# Altium schematic symbol library ConnectorsG.SchLib: 21 symbols
Pins are listed as number, name and electrical type; pins without a type are passive.

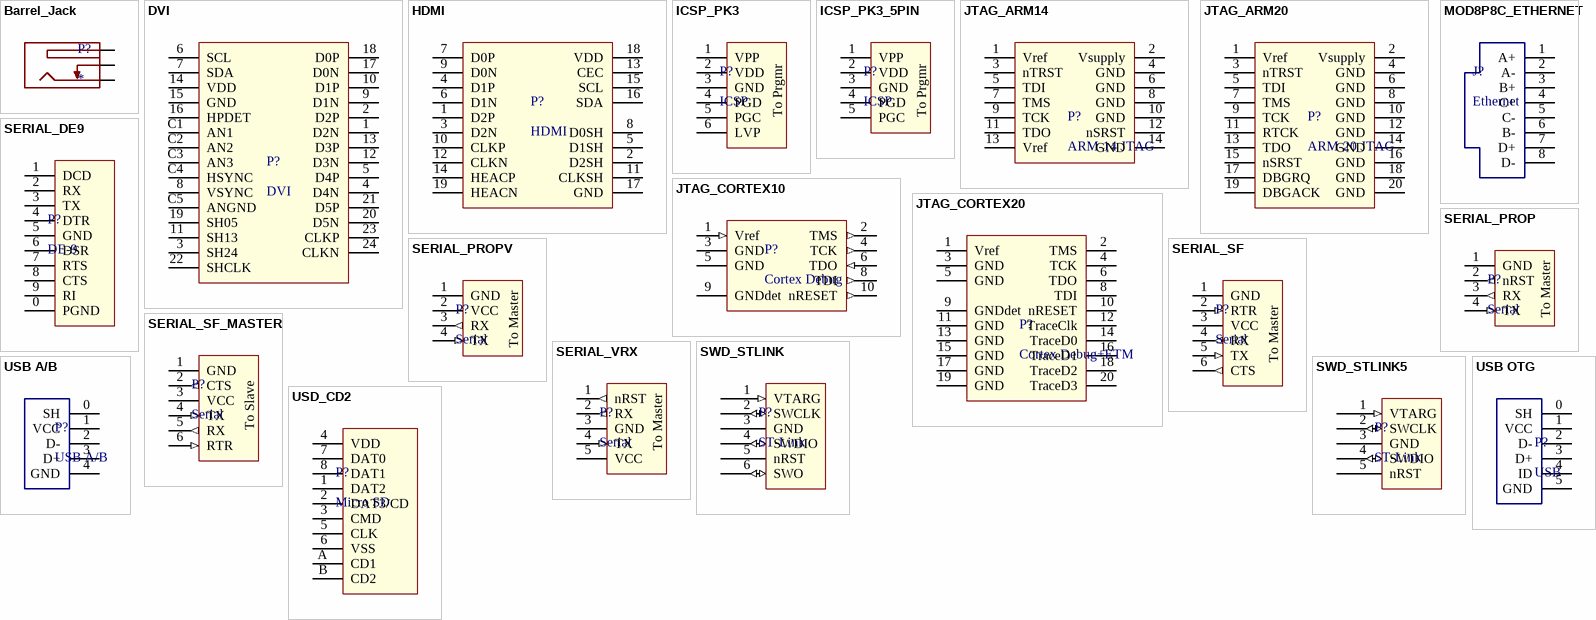
[diagram p0: symbols Barrel_Jack to USD_CD2]

## Barrel_Jack
designator P?
DC Power Jack - Barrel Type
footprint PJ-002A (DC Power Jack - Barrel Type)
footprint PJ-007 (Power Jack 1.3mm ID, 3.5mm OD)
pins: RING, SWITCH, TIP

## DVI
designator P?
pins: 1 D2N, 2 D2P, 3 SH24, 4 D4N, 5 D4P, 6 SCL, 7 SDA, 8 VSYNC, 9 D1N, 10 D1P, 11 SH13, 12 D3N, 13 D3P, 14 VDD, 15 GND, 16 HPDET, 17 D0N, 18 D0P, 19 SH05, 20 D5N, 21 D5P, 22 SHCLK, 23 CLKP, 24 CLKN, C1 AN1, C2 AN2, C3 AN3, C4 HSYNC, C5 ANGND

## HDMI
designator P?
pins: 1 D2P, 2 D2SH, 3 D2N, 4 D1P, 5 D1SH, 6 D1N, 7 D0P, 8 D0SH, 9 D0N, 10 CLKP, 11 CLKSH, 12 CLKN, 13 CEC, 14 HEACP, 15 SCL, 16 SDA, 17 GND, 18 VDD, 19 HEACN

## ICSP_PK3
designator P?, comment ICSP
PICKit3 compatible ICSP header
footprint HDR1X6 (Footprint not found)
pins: 1 VPP, 2 VDD, 3 GND, 4 PGD, 5 PGC, 6 LVP
text: To Prgmr

## ICSP_PK3_5PIN
designator P?, comment ICSP
PICKit3 compatible ICSP header
footprint HDR1X5 (Connector; Header; 5 Position)
pins: 1 VPP, 2 VDD, 3 GND, 4 PGD, 5 PGC
text: To Prgmr

## JTAG_ARM14
designator P?, comment ARM-14 JTAG
JTAG - ARM 14-pin style
footprint HDR2X7 (Connector; Header; 7x2 Position)
pins: 1 Vref, 2 Vsupply, 3 nTRST, 4 GND, 5 TDI, 6 GND, 7 TMS, 8 GND, 9 TCK, 10 GND, 11 TDO, 12 nSRST, 13 Vref, 14 GND

## JTAG_ARM20
designator P?, comment ARM-20 JTAG
JTAG - ARM 20-pin style
footprint HDR2X10 (Connector; Header; 10x2 Position)
pins: 1 Vref, 2 Vsupply, 3 nTRST, 4 GND, 5 TDI, 6 GND, 7 TMS, 8 GND, 9 TCK, 10 GND, 11 RTCK, 12 GND, 13 TDO, 14 GND, 15 nSRST, 16 GND, 17 DBGRQ, 18 GND, 19 DBGACK, 20 GND

## JTAG_CORTEX10
designator P?, comment Cortex Debug
JTAG - ARM Cortex Debug
pins: 1 Vref (in), 2 TMS (out), 3 GND, 4 TCK (out), 5 GND, 6 TDO (in), 8 TDI (out), 9 GNDdet, 10 nRESET (out)

## JTAG_CORTEX20
designator P?, comment Cortex Debug+ETM
JTAG - ARM Cortex Debug+ETM
pins: 1 Vref, 2 TMS, 3 GND, 4 TCK, 5 GND, 6 TDO, 8 TDI, 9 GNDdet, 10 nRESET, 11 GND, 12 TraceClk, 13 GND, 14 TraceD0, 15 GND, 16 TraceD1, 17 GND, 18 TraceD2, 19 GND, 20 TraceD3

## MOD8P8C_ETHERNET
designator J?, comment Ethernet
8p8c connector for Ethernet
pins: 1 A+, 2 A-, 3 B+, 4 C+, 5 C-, 6 B-, 7 D+, 8 D-

## SERIAL_DE9
designator P?, comment DE-9
DE-9 connector for RS-232
pins: 0 PGND, 1 DCD, 2 RX, 3 TX, 4 DTR, 5 GND, 6 DSR, 7 RTS, 8 CTS, 9 RI

## SERIAL_PROP
designator P?, comment Serial
"Prop Clip"-compatible serial
footprint HDR1X4 (Connector; Header; 4 Position)
pins: 1 GND (power), 2 nRST (out), 3 RX (out), 4 TX (in)
text: To Master

## SERIAL_PROPV
designator P?, comment Serial
Prop-Clip variant with VCC
footprint HDR1X4 (Connector; Header; 4 Position)
pins: 1 GND (power), 2 VCC (power), 3 RX (out), 4 TX (in)
text: To Master

## SERIAL_SF
designator P?, comment Serial
Sparkfun-compatible serial header for slave device
footprint HDR1X6 (Footprint not found)
pins: 1 GND (power), 2 RTR (in), 3 VCC (power), 4 RX (out), 5 TX (in), 6 CTS (out)
text: To Master

## SERIAL_SF_MASTER
designator P?, comment Serial
Sparkfun-compatible serial header for master device
footprint HDR1X6 (Footprint not found)
pins: 1 GND (power), 2 CTS (out), 3 VCC (power), 4 TX (in), 5 RX (out), 6 RTR (in)
text: To Slave

## SERIAL_VRX
designator P?, comment Serial
Serial with VCC and reset
footprint HDR1X5 (Footprint not found)
pins: 1 nRST (out), 2 RX (out), 3 GND (power), 4 TX (in), 5 VCC
text: To Master

## SWD_STLINK
designator P?, comment ST-Link
footprint HDR1X6 (Footprint not found)
pins: 1 VTARG (in), 2 SWCLK (io), 3 GND (power), 4 SWDIO (io), 5 nRST, 6 SWO (io)

## SWD_STLINK5
designator P?, comment ST-Link
footprint HDR1X5
pins: 1 VTARG (in), 2 SWCLK (io), 3 GND (power), 4 SWDIO (io), 5 nRST

## USB A/B
designator P?
footprint 48037-2200 (USB A Type Plug SMT)
pins: 0 SH, 1 VCC, 2 D-, 3 D+, 4 GND

## USB OTG
designator P?, comment USB
USB OTG
footprint UX60-MB-5ST (USB Mini-AB Receptacle)
pins: 0 SH, 1 VCC, 2 D-, 3 D+, 4 ID, 5 GND

## USD_CD2
designator P?, comment Micro SD
footprint 114-00841-68 (Micro-SD)
pins: 1 DAT2, 2 DAT3/CD, 3 CMD, 4 VDD, 5 CLK, 6 VSS, 7 DAT0, 8 DAT1, A CD1, B CD2